# Altium schematic symbol library WP7113ID.SchLib: 1 symbol
Pins are listed as number, name and electrical type; pins without a type are passive.

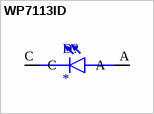
[diagram p0: symbol WP7113ID]

## WP7113ID
designator D?
LED; Thru-Hole; Green; T1-3/4; 5mm; Clear Lens; 25ma; 565nm; 200mcd; Round; MP: WP7113ID; MF: {'manufacturer': u'Kingbright'}; Value: *; Price: None; Package: None; Availability: Unavailable
footprint LED_WP7113ID
pins: A, C